# Altium schematic symbol library BAT-HLD-002-SMT.SchLib: 1 symbol
Pins are listed as number, name and electrical type; pins without a type are passive.

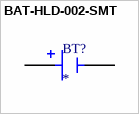
[diagram p0: symbol BAT-HLD-002-SMT]

## BAT-HLD-002-SMT
designator BT?
Holder for CR2016 Battery, Surface-Mount, Bulk Packaging; MF: Linx Technologies; MP: BAT-HLD-002-SMT; SnapEDA_Link: https://www.snapeda.com/parts/BAT-HLD-002-SMT/Linx+Technologies+Inc./view-part/?ref=snap; Package: None; Value: *; Check_prices: https://www.snapeda.com/parts/BAT-HLD-002-SMT/Linx+Technologies+Inc./view-part/?ref=eda
footprint BAT_BAT-HLD-002-SMT
pins: N, P1 P, P2 P